# EAGLE library part IF_ETH_PHY_RTL8363NB-VB-CG (library !GPLIB_ACTIVE)
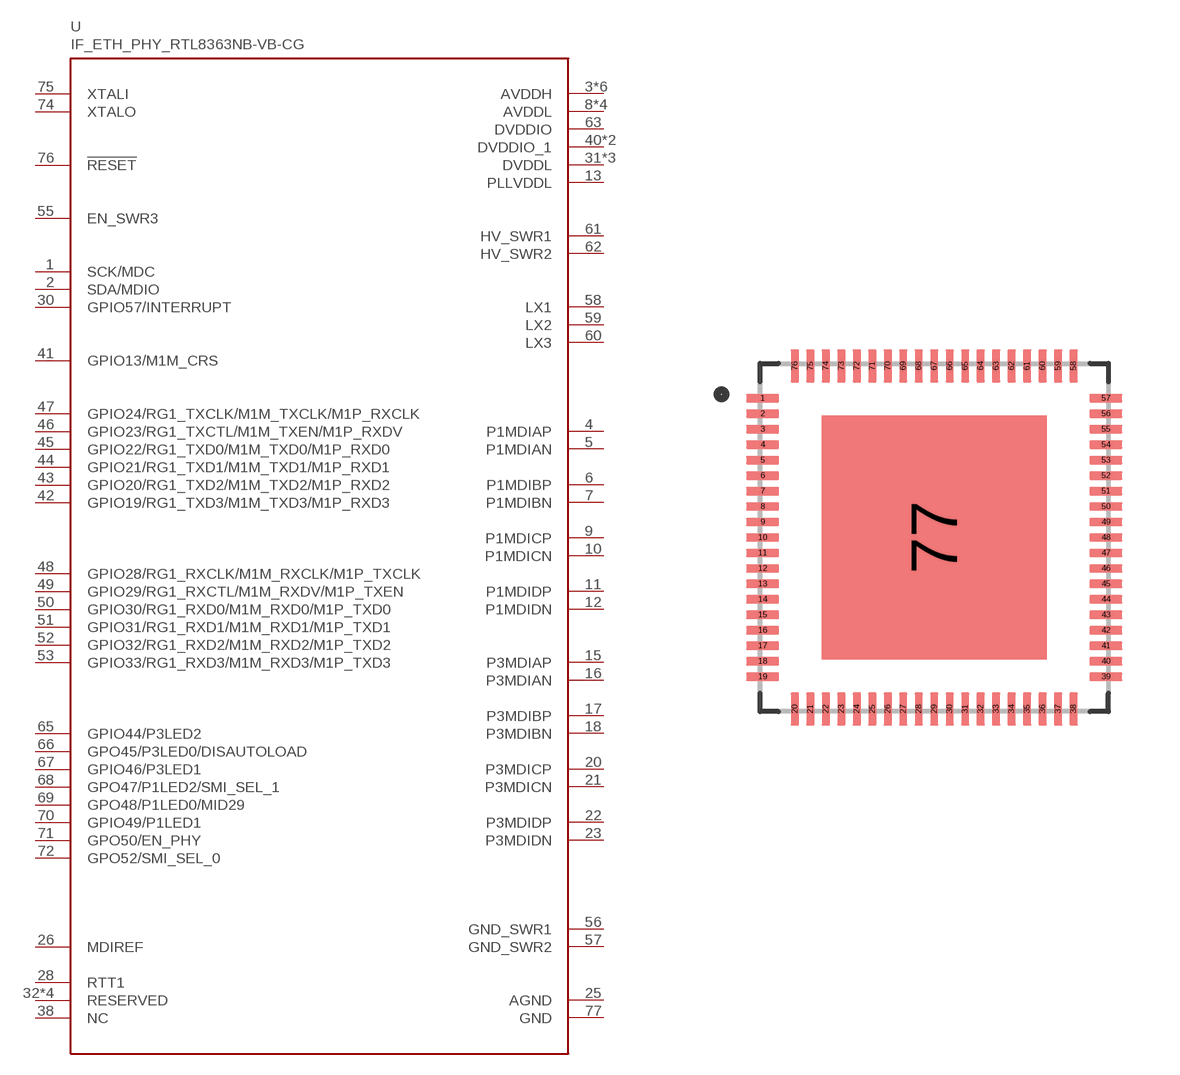
[diagram p90: symbol with the pads of QFN40P900X900X100-77N; footprint QFN40P900X900X100-77N]

Designator prefix U

## IF_ETH_PHY_RTL8363NB-VB-CG_RTL8363NB-VB-CG  [QFN40P900X900X100-77N]
1  SCK/MDC  out
2  SDA/MDIO
3  AVDDH  pwr
4  P1MDIAP
5  P1MDIAN
6  P1MDIBP
7  P1MDIBN
8  AVDDL  pwr
9  P1MDICP
10  P1MDICN
11  P1MDIDP
12  P1MDIDN
13  PLLVDDL  pwr
14  AVDDH  pwr
15  P3MDIAP
16  P3MDIAN
17  P3MDIBP
18  P3MDIBN
19  AVDDL  pwr
20  P3MDICP
21  P3MDICN
22  P3MDIDP
23  P3MDIDN
24  AVDDH  pwr
25  AGND  pwr
26  MDIREF  out
27  AVDDL  pwr
28  RTT1  out
29  AVDDH  pwr
30  GPIO57/INTERRUPT
31  DVDDL  pwr
32  RESERVED  in
33  RESERVED  in
34  AVDDL  pwr
35  RESERVED  in
36  RESERVED  in
37  AVDDH  pwr
38  NC  nc
39  DVDDL  pwr
40  DVDDIO_1  pwr
41  GPIO13/M1M_CRS
42  GPIO19/RG1_TXD3/M1M_TXD3/M1P_RXD3
43  GPIO20/RG1_TXD2/M1M_TXD2/M1P_RXD2
44  GPIO21/RG1_TXD1/M1M_TXD1/M1P_RXD1
45  GPIO22/RG1_TXD0/M1M_TXD0/M1P_RXD0
46  GPIO23/RG1_TXCTL/M1M_TXEN/M1P_RXDV
47  GPIO24/RG1_TXCLK/M1M_TXCLK/M1P_RXCLK
48  GPIO28/RG1_RXCLK/M1M_RXCLK/M1P_TXCLK
49  GPIO29/RG1_RXCTL/M1M_RXDV/M1P_TXEN
50  GPIO30/RG1_RXD0/M1M_RXD0/M1P_TXD0
51  GPIO31/RG1_RXD1/M1M_RXD1/M1P_TXD1
52  GPIO32/RG1_RXD2/M1M_RXD2/M1P_TXD2
53  GPIO33/RG1_RXD3/M1M_RXD3/M1P_TXD3
54  DVDDIO_1  pwr
55  EN_SWR3  in
56  GND_SWR1  pwr
57  GND_SWR2  pwr
58  LX1  in
59  LX2  in
60  LX3  in
61  HV_SWR1  in
62  HV_SWR2  in
63  DVDDIO  pwr
64  DVDDL  pwr
65  GPIO44/P3LED2
66  GPO45/P3LED0/DISAUTOLOAD
67  GPIO46/P3LED1
68  GPO47/P1LED2/SMI_SEL_1
69  GPO48/P1LED0/MID29
70  GPIO49/P1LED1
71  GPO50/EN_PHY
72  GPO52/SMI_SEL_0
73  AVDDH  pwr
74  XTALO  out
75  XTALI  in
76  !RESET  in
77  GND  pwr

## Footprint QFN40P900X900X100-77N (pad centres in mm)
smd 0.86 x 0.22: 1 -4.435,3.6; 2 -4.435,3.2; 3 -4.435,2.8; 4 -4.435,2.4; 5 -4.435,2; 6 -4.435,1.6; 7 -4.435,1.2; 8 -4.435,0.8; 9 -4.435,0.4; 10 -4.435,0; 11 -4.435,-0.4; 12 -4.435,-0.8; 13 -4.435,-1.2; 14 -4.435,-1.6; 15 -4.435,-2; 16 -4.435,-2.4; 17 -4.435,-2.8; 18 -4.435,-3.2; 19 -4.435,-3.6; 39 4.435,-3.6; 40 4.435,-3.2; 41 4.435,-2.8; 42 4.435,-2.4; 43 4.435,-2; 44 4.435,-1.6; 45 4.435,-1.2; 46 4.435,-0.8; 47 4.435,-0.4; 48 4.435,0; 49 4.435,0.4; 50 4.435,0.8; 51 4.435,1.2; 52 4.435,1.6; 53 4.435,2; 54 4.435,2.4; 55 4.435,2.8; 56 4.435,3.2; 57 4.435,3.6
smd 0.22 x 0.86: 20 -3.6,-4.435; 21 -3.2,-4.435; 22 -2.8,-4.435; 23 -2.4,-4.435; 24 -2,-4.435; 25 -1.6,-4.435; 26 -1.2,-4.435; 27 -0.8,-4.435; 28 -0.4,-4.435; 29 0,-4.435; 30 0.4,-4.435; 31 0.8,-4.435; 32 1.2,-4.435; 33 1.6,-4.435; 34 2,-4.435; 35 2.4,-4.435; 36 2.8,-4.435; 37 3.2,-4.435; 38 3.6,-4.435; 58 3.6,4.435; 59 3.2,4.435; 60 2.8,4.435; 61 2.4,4.435; 62 2,4.435; 63 1.6,4.435; 64 1.2,4.435; 65 0.8,4.435; 66 0.4,4.435; 67 0,4.435; 68 -0.4,4.435; 69 -0.8,4.435; 70 -1.2,4.435; 71 -1.6,4.435; 72 -2,4.435; 73 -2.4,4.435; 74 -2.8,4.435; 75 -3.2,4.435; 76 -3.6,4.435
smd 5.81 x 6.31: 77 0,0